# Altium footprint library 395320002.PcbLib: 1 footprints
Each footprint in its own frame and in the unit in brackets; x right, y up, seen from the top. Pads: shape width x height; smd on the part's side, far side on the other; paste and mask are expansions set on the pad; w line width, h text height; cw(c..) or ccw(c..) is an arc to the next point about the centre after c.
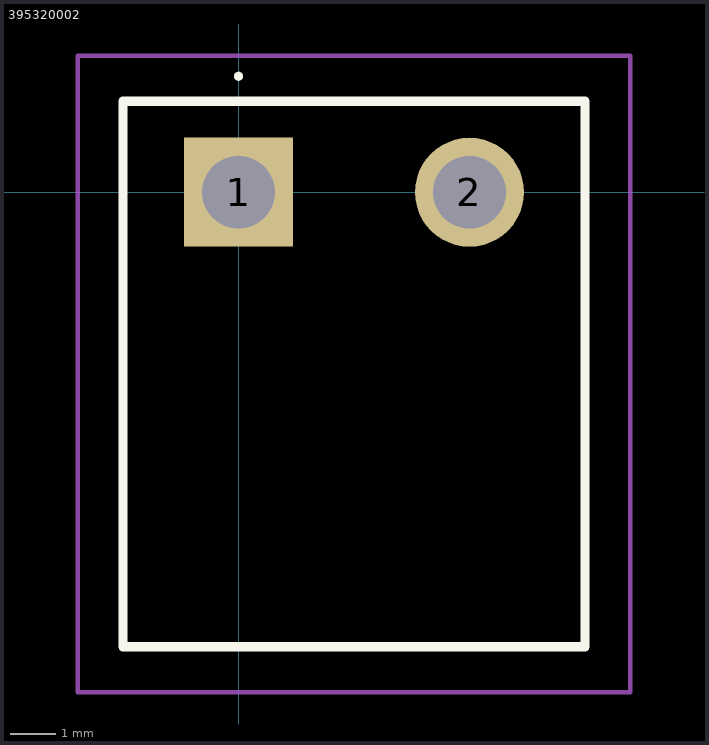
[diagram p0: the footprint, top view; thin cyan lines are the x and y axes]

## 395320002 [mm]
pads (2):
  rect 2.4x2.4 hole 1.6: 1(0,0)
  round 2.4 hole 1.6: 2(5.08,0)
Top Overlay:
  lines w0.1: 0,2.5 cw(c0,2.55) 0,2.6 ; 0,2.5 0,2.5 ; 0,2.5 ccw(c0,2.55) 0,2.6 ; 0,2.6 0,2.6
  lines w0.2: -2.54,-10 7.62,-10 7.62,2 -2.54,2 -2.54,-10
Mechanical 15:
  lines w0.1: -2.54,-10 7.62,-10 7.62,2 -2.54,2 -2.54,-10
Mechanical 20:
  lines w0.1: -3.54,-11 8.62,-11 8.62,3 -3.54,3 -3.54,-11